# Altium integrated library Microchip PIC18.IntLib: 1897 symbols (part 4 of 110)
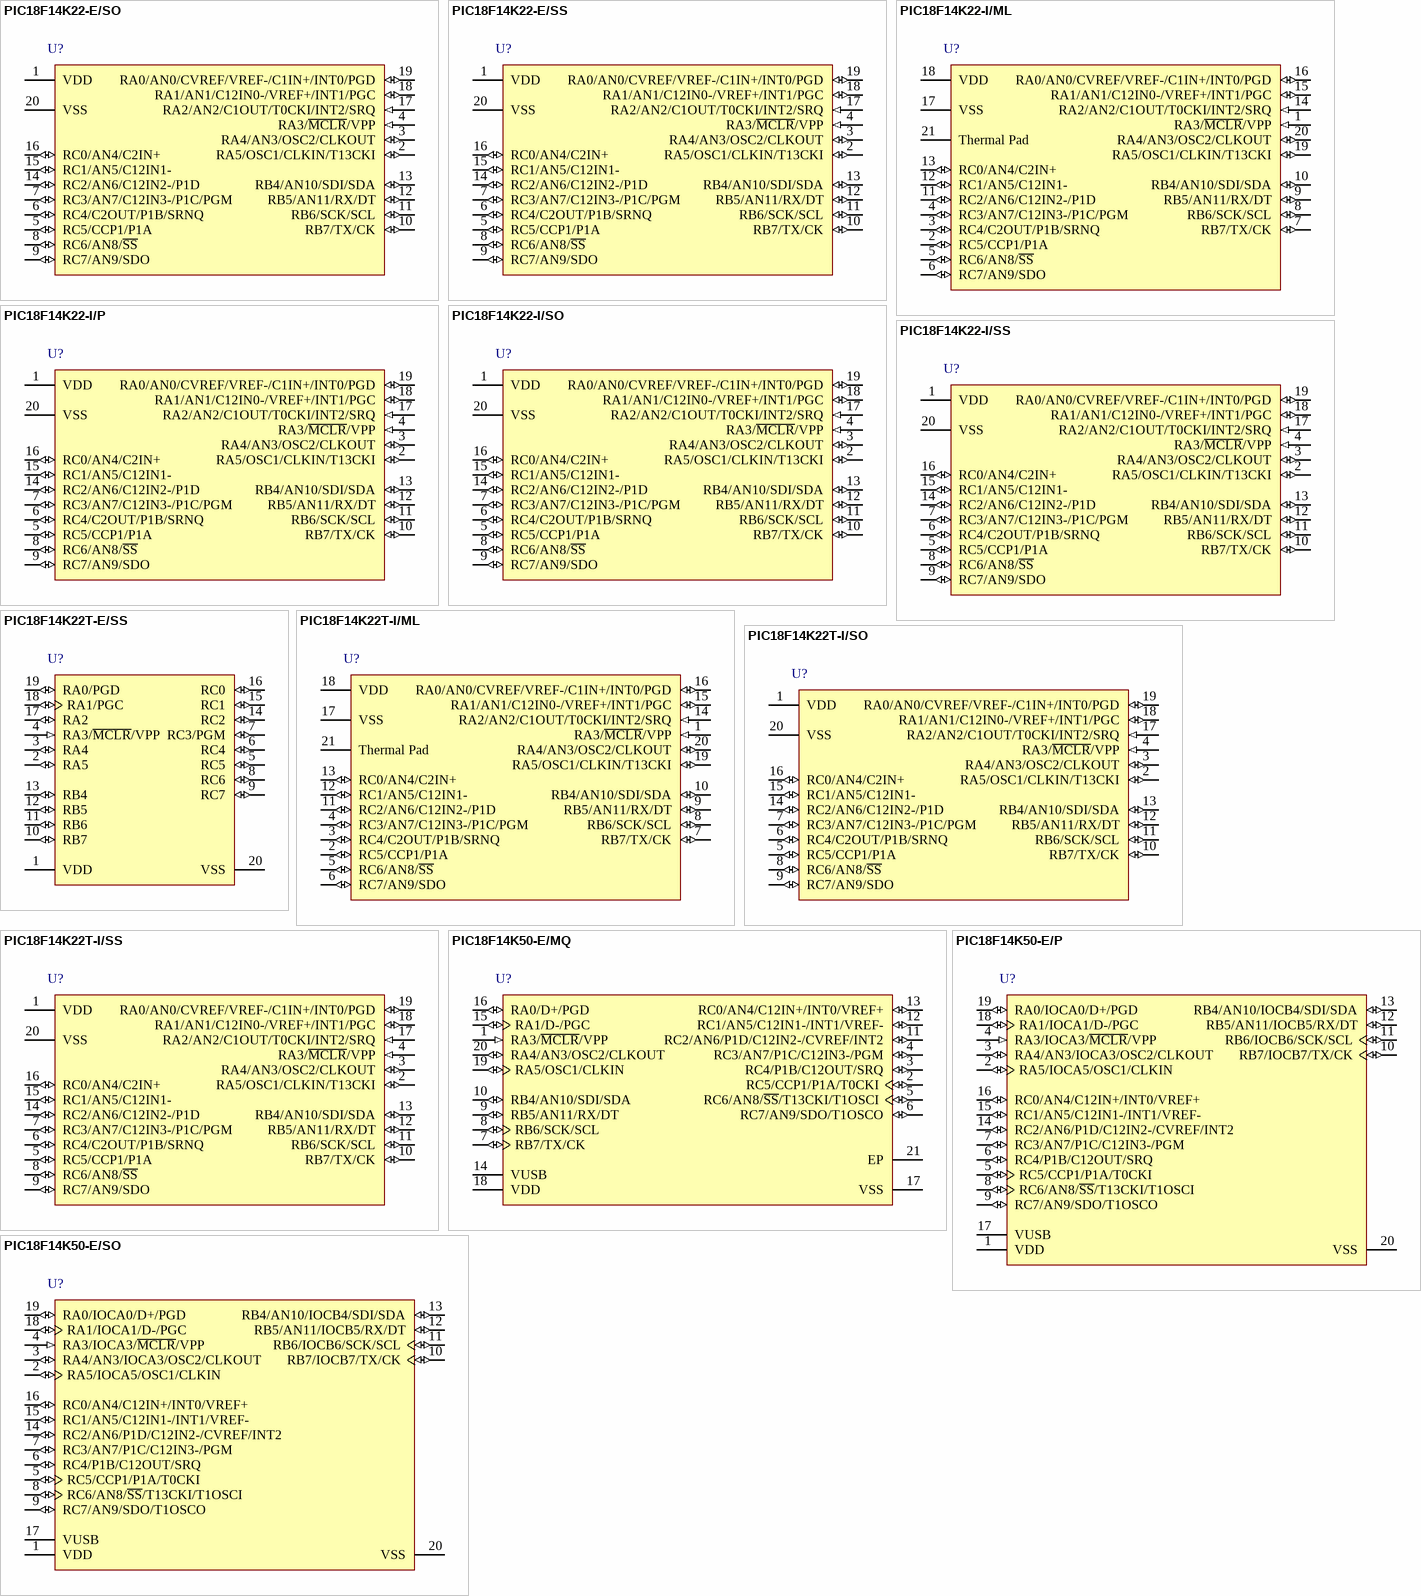
[diagram p324: symbols PIC18F14K22-E/SO to PIC18F14K50-E/SO]

## PIC18F14K22-I/SO
designator U?
Flash Microcontroller with nanoWatt XLP Technology, 20-pin SOIC, Industrial Temperature; Manufacturer: Microchip; PartNumber: PIC18F14K22-I/SO; DatasheetVersion: revC, Oct-2009; PackageVersion: C04-094C, 12/2012; PackageReference: SOIC-SO20; PackageDescription: 20-Lead Plastic Small Outline, 7.5 x 12.8 mm Body, 1.27 mm Pitch; ComponentLink1Description: Manufacturer URL; ComponentLink1URL: http://www.microchip.com/; ComponentLink2Description: Datasheet; ComponentLink2URL: http://ww1.microchip.com/downloads/en/DeviceDoc/41365C.pdf; ComponentLink3Description: Package Specification; ComponentLink3URL: http://www.microchip.com/stellent/groups/techpub_sg/documents/packagingspec/en012702.pdf
footprint MCHP-SOIC-SO20_N (SOIC, 20-Leads, Body 12.8x7.5mm, Pitch 1.27mm, IPC Medium Density)
footprint MCHP-SOIC-SO20_L (SOIC, 20-Leads, Body 12.8x7.5mm, Pitch 1.27mm, IPC High Density)
footprint MCHP-SOIC-SO20_M (SOIC, 20-Leads, Body 12.8x7.5mm, Pitch 1.27mm, IPC Low Density)
pins: 1 VDD (power), 2 RA5/OSC1/CLKIN/T13CKI (io), 3 RA4/AN3/OSC2/CLKOUT (io), 4 RA3/~{MCLR}/VPP (in), 5 RC5/CCP1/P1A (io), 6 RC4/C2OUT/P1B/SRNQ (io), 7 RC3/AN7/C12IN3-/P1C/PGM (io), 8 RC6/AN8/~{SS} (io), 9 RC7/AN9/SDO (io), 10 RB7/TX/CK (io), 11 RB6/SCK/SCL (io), 12 RB5/AN11/RX/DT (io), 13 RB4/AN10/SDI/SDA (io), 14 RC2/AN6/C12IN2-/P1D (io), 15 RC1/AN5/C12IN1- (io), 16 RC0/AN4/C2IN+ (io), 17 RA2/AN2/C1OUT/T0CKI/INT2/SRQ (in), 18 RA1/AN1/C12IN0-/VREF+/INT1/PGC (io), 19 RA0/AN0/CVREF/VREF-/C1IN+/INT0/PGD (io), 20 VSS (power)

## PIC18F14K22-I/SS
designator U?
Flash Microcontroller with nanoWatt XLP Technology, 20-pin SSOP, Industrial Temperature; Manufacturer: Microchip; PartNumber: PIC18F14K22-I/SS; DatasheetVersion: revC, Oct-2009; PackageVersion: C04-072B, 12/2012; PackageReference: SSOP-SS20; PackageDescription: 20-Lead Plastic Shrink Small Outline, 5.3 x 7.2 mm Body, 0.65 mm Pitch; ComponentLink1Description: Manufacturer URL; ComponentLink1URL: http://www.microchip.com/; ComponentLink2Description: Datasheet; ComponentLink2URL: http://ww1.microchip.com/downloads/en/DeviceDoc/41365C.pdf; ComponentLink3Description: Package Specification; ComponentLink3URL: http://www.microchip.com/stellent/groups/techpub_sg/documents/packagingspec/en012702.pdf
footprint MCHP-SSOP-SS20_N (SOP, 20-Leads, Body 7.2x5.3mm, Pitch 0.65mm, IPC Medium Density)
footprint MCHP-SSOP-SS20_L (SOP, 20-Leads, Body 7.2x5.3mm, Pitch 0.65mm, IPC High Density)
footprint MCHP-SSOP-SS20_M (SOP, 20-Leads, Body 7.2x5.3mm, Pitch 0.65mm, IPC Low Density)
pins: 1 VDD (power), 2 RA5/OSC1/CLKIN/T13CKI (io), 3 RA4/AN3/OSC2/CLKOUT (io), 4 RA3/~{MCLR}/VPP (in), 5 RC5/CCP1/P1A (io), 6 RC4/C2OUT/P1B/SRNQ (io), 7 RC3/AN7/C12IN3-/P1C/PGM (io), 8 RC6/AN8/~{SS} (io), 9 RC7/AN9/SDO (io), 10 RB7/TX/CK (io), 11 RB6/SCK/SCL (io), 12 RB5/AN11/RX/DT (io), 13 RB4/AN10/SDI/SDA (io), 14 RC2/AN6/C12IN2-/P1D (io), 15 RC1/AN5/C12IN1- (io), 16 RC0/AN4/C2IN+ (io), 17 RA2/AN2/C1OUT/T0CKI/INT2/SRQ (in), 18 RA1/AN1/C12IN0-/VREF+/INT1/PGC (io), 19 RA0/AN0/CVREF/VREF-/C1IN+/INT0/PGD (io), 20 VSS (power)

## PIC18F14K22T-E/SS
designator U?
Flash Microcontroller with nanoWatt XLP Technology, 64 MHz, 17 I/O, -40 to 125 degC, 20-pin SSOP (SS20), Tape and Reel; Manufacturer: Microchip; PartNumber: PIC18F14K22T-E/SS; # of A/D Channels: 12; Digital Communication: 1 -A/E/USART, 1 -MSSP(SPI/I2C); EEPROM Data Memory (bytes): 256; I/O Pins: 17; Internal Oscillator: 16 MHz, 31 kHz; Max. CPU Speed MHz: 64; Operation Voltage Range: 2.3V - 5.5V; Packing: T/R; Program Memory KBytes: 16; Program Memory KWords: 8; RAM: 512; Timers: 1 - 8-bit, 3 - 16-bit; DatasheetVersion: Rev. E; PackageVersion: C04-072B, 12/2012; PackageReference: SSOP-SS20; PackageDescription: 20-Lead Plastic Shrink Small Outline, 5.3 x 7.2 mm Body, 0.65 mm Pitch; Memory Type: Flash; RoHS: TRUE; Mounting Technology: Surface Mount; ComponentLink1Description: Datasheet; ComponentLink1URL: http://ww1.microchip.com/downloads/en/DeviceDoc/41365E.pdf; ComponentLink2Description: Package Specification; ComponentLink2URL: http://www.microchip.com/stellent/groups/techpub_sg/documents/packagingspec/en012702.pdf; ComponentLink3Description: URL Link1; ComponentLink3URL: Product URL:http://www.microchip.com/datasheet/PIC18F14K22
footprint MCHP-SSOP-SS20_N (SOP, 20-Leads, Body 7.2x5.3mm, Pitch 0.65mm, IPC Medium Density)
footprint MCHP-SSOP-SS20_L (SOP, 20-Leads, Body 7.2x5.3mm, Pitch 0.65mm, IPC High Density)
footprint MCHP-SSOP-SS20_M (SOP, 20-Leads, Body 7.2x5.3mm, Pitch 0.65mm, IPC Low Density)
pins: 1 VDD (power) "Positive supply for logic and I/O pins", 2 RA5 (io), 3 RA4 (io), 4 RA3/~{MCLR}/VPP (in), 5 RC5 (io), 6 RC4 (io), 7 RC3/PGM (io), 8 RC6 (io), 9 RC7 (io), 10 RB7 (io), 11 RB6 (io), 12 RB5 (io), 13 RB4 (io), 14 RC2 (io), 15 RC1 (io), 16 RC0 (io), 17 RA2 (io), 18 RA1/PGC (io), 19 RA0/PGD (io), 20 VSS (power) "Ground reference for logic and I/O pins"

## PIC18F14K22T-I/ML
designator U?
Flash Microcontroller with nanoWatt XLP Technology, 20-pin QFN, Industrial Temperature, Tape and Reel; Manufacturer: Microchip; PartNumber: PIC18F14K22T-I/ML; DatasheetVersion: revC, Oct-2009; PackageVersion: C04-126B, 12/2012; PackageReference: QFN-ML20; PackageDescription: 20-Lead Plastic Quad Flat, No Lead Package, 4 x 4 mm Body, 0.5 mm Pitch; ComponentLink1Description: Manufacturer URL; ComponentLink1URL: http://www.microchip.com/; ComponentLink2Description: Datasheet; ComponentLink2URL: http://ww1.microchip.com/downloads/en/DeviceDoc/41365C.pdf; ComponentLink3Description: Package Specification; ComponentLink3URL: http://www.microchip.com/stellent/groups/techpub_sg/documents/packagingspec/en012702.pdf
footprint MCHP-QFN-ML20_N (QFN, 20-Leads, Body 4x4mm, Pitch 0.5mm, Thermal Pad 2.7x2.7mm, IPC Medium Density)
footprint MCHP-QFN-ML20_L (QFN, 20-Leads, Body 4x4mm, Pitch 0.5mm, Thermal Pad 2.7x2.7mm, IPC High Density)
footprint MCHP-QFN-ML20_M (QFN, 20-Leads, Body 4x4mm, Pitch 0.5mm, Thermal Pad 2.7x2.7mm, IPC Low Density)
pins: 1 RA3/~{MCLR}/VPP (in), 2 RC5/CCP1/P1A (io), 3 RC4/C2OUT/P1B/SRNQ (io), 4 RC3/AN7/C12IN3-/P1C/PGM (io), 5 RC6/AN8/~{SS} (io), 6 RC7/AN9/SDO (io), 7 RB7/TX/CK (io), 8 RB6/SCK/SCL (io), 9 RB5/AN11/RX/DT (io), 10 RB4/AN10/SDI/SDA (io), 11 RC2/AN6/C12IN2-/P1D (io), 12 RC1/AN5/C12IN1- (io), 13 RC0/AN4/C2IN+ (io), 14 RA2/AN2/C1OUT/T0CKI/INT2/SRQ (in), 15 RA1/AN1/C12IN0-/VREF+/INT1/PGC (io), 16 RA0/AN0/CVREF/VREF-/C1IN+/INT0/PGD (io), 17 VSS (power), 18 VDD (power), 19 RA5/OSC1/CLKIN/T13CKI (io), 20 RA4/AN3/OSC2/CLKOUT (io), 21 Thermal Pad (power)

## PIC18F14K22T-I/SO
designator U?
Flash Microcontroller with nanoWatt XLP Technology, 20-pin SOIC, Industrial Temperature, Tape and Reel; Manufacturer: Microchip; PartNumber: PIC18F14K22T-I/SO; DatasheetVersion: revC, Oct-2009; PackageVersion: C04-094C, 12/2012; PackageReference: SOIC-SO20; PackageDescription: 20-Lead Plastic Small Outline, 7.5 x 12.8 mm Body, 1.27 mm Pitch; ComponentLink1Description: Manufacturer URL; ComponentLink1URL: http://www.microchip.com/; ComponentLink2Description: Datasheet; ComponentLink2URL: http://ww1.microchip.com/downloads/en/DeviceDoc/41365C.pdf; ComponentLink3Description: Package Specification; ComponentLink3URL: http://www.microchip.com/stellent/groups/techpub_sg/documents/packagingspec/en012702.pdf
footprint MCHP-SOIC-SO20_N (SOIC, 20-Leads, Body 12.8x7.5mm, Pitch 1.27mm, IPC Medium Density)
footprint MCHP-SOIC-SO20_L (SOIC, 20-Leads, Body 12.8x7.5mm, Pitch 1.27mm, IPC High Density)
footprint MCHP-SOIC-SO20_M (SOIC, 20-Leads, Body 12.8x7.5mm, Pitch 1.27mm, IPC Low Density)
pins: 1 VDD (power), 2 RA5/OSC1/CLKIN/T13CKI (io), 3 RA4/AN3/OSC2/CLKOUT (io), 4 RA3/~{MCLR}/VPP (in), 5 RC5/CCP1/P1A (io), 6 RC4/C2OUT/P1B/SRNQ (io), 7 RC3/AN7/C12IN3-/P1C/PGM (io), 8 RC6/AN8/~{SS} (io), 9 RC7/AN9/SDO (io), 10 RB7/TX/CK (io), 11 RB6/SCK/SCL (io), 12 RB5/AN11/RX/DT (io), 13 RB4/AN10/SDI/SDA (io), 14 RC2/AN6/C12IN2-/P1D (io), 15 RC1/AN5/C12IN1- (io), 16 RC0/AN4/C2IN+ (io), 17 RA2/AN2/C1OUT/T0CKI/INT2/SRQ (in), 18 RA1/AN1/C12IN0-/VREF+/INT1/PGC (io), 19 RA0/AN0/CVREF/VREF-/C1IN+/INT0/PGD (io), 20 VSS (power)

## PIC18F14K22T-I/SS
designator U?
Flash Microcontroller with nanoWatt XLP Technology, 20-pin SSOP, Industrial Temperature, Tape and Reel; Manufacturer: Microchip; PartNumber: PIC18F14K22T-I/SS; DatasheetVersion: revC, Oct-2009; PackageVersion: C04-072B, 12/2012; PackageReference: SSOP-SS20; PackageDescription: 20-Lead Plastic Shrink Small Outline, 5.3 x 7.2 mm Body, 0.65 mm Pitch; ComponentLink1Description: Manufacturer URL; ComponentLink1URL: http://www.microchip.com/; ComponentLink2Description: Datasheet; ComponentLink2URL: http://ww1.microchip.com/downloads/en/DeviceDoc/41365C.pdf; ComponentLink3Description: Package Specification; ComponentLink3URL: http://www.microchip.com/stellent/groups/techpub_sg/documents/packagingspec/en012702.pdf
footprint MCHP-SSOP-SS20_N (SOP, 20-Leads, Body 7.2x5.3mm, Pitch 0.65mm, IPC Medium Density)
footprint MCHP-SSOP-SS20_L (SOP, 20-Leads, Body 7.2x5.3mm, Pitch 0.65mm, IPC High Density)
footprint MCHP-SSOP-SS20_M (SOP, 20-Leads, Body 7.2x5.3mm, Pitch 0.65mm, IPC Low Density)
pins: 1 VDD (power), 2 RA5/OSC1/CLKIN/T13CKI (io), 3 RA4/AN3/OSC2/CLKOUT (io), 4 RA3/~{MCLR}/VPP (in), 5 RC5/CCP1/P1A (io), 6 RC4/C2OUT/P1B/SRNQ (io), 7 RC3/AN7/C12IN3-/P1C/PGM (io), 8 RC6/AN8/~{SS} (io), 9 RC7/AN9/SDO (io), 10 RB7/TX/CK (io), 11 RB6/SCK/SCL (io), 12 RB5/AN11/RX/DT (io), 13 RB4/AN10/SDI/SDA (io), 14 RC2/AN6/C12IN2-/P1D (io), 15 RC1/AN5/C12IN1- (io), 16 RC0/AN4/C2IN+ (io), 17 RA2/AN2/C1OUT/T0CKI/INT2/SRQ (in), 18 RA1/AN1/C12IN0-/VREF+/INT1/PGC (io), 19 RA0/AN0/CVREF/VREF-/C1IN+/INT0/PGD (io), 20 VSS (power)

## PIC18F14K50-E/MQ
designator U?
USB Flash Microcontroller with nanoWatt XLP Technology, 48 MHz, 14 I/O, -40 to 125 degC, 20-pin QFN (MQ20), Tube; Manufacturer: Microchip; PartNumber: PIC18F14K50-E/MQ; # of A/D Channels: 9; Digital Communication: 1 -A/E/USART, 1 -MSSP(SPI/I2C); EEPROM Data Memory (bytes): 256; I/O Pins: 14; Internal Oscillator: 16 MHz, 31 kHz; Max. CPU Speed MHz: 48; Operation Voltage Range: 1.8V - 5.5V; Program Memory KBytes: 16; Program Memory KWords: 8; RAM: 768; Timers: 1 - 8-bit, 3 - 16-bit; DatasheetVersion: Rev. E; PackageVersion: C04-139B, 12/2012; PackageReference: QFN-MQ20; PackageDescription: 20-Lead Plastic Quad Flat, No Lead Package, 5 x 5 mm Body, 0.65 mm Pitch; Memory Type: Flash; Packing: TUBE; RoHS: TRUE; Mounting Technology: Surface Mount; ComponentLink1Description: Datasheet; ComponentLink1URL: http://ww1.microchip.com/downloads/en/DeviceDoc/41350E.pdf; ComponentLink2Description: Package Specification; ComponentLink2URL: http://www.microchip.com/stellent/groups/techpub_sg/documents/packagingspec/en012702.pdf; ComponentLink3Description: URL Link1; ComponentLink3URL: Product URL:http://www.microchip.com/datasheet/PIC18F14K50
footprint MCHP-QFN-MQ20_N (QFN, 20-Leads, Body 5x5mm, Pitch 0.65mm, Thermal Pad 3.25x3.25mm, IPC Medium Density)
footprint MCHP-QFN-MQ20_L (QFN, 20-Leads, Body 5x5mm, Pitch 0.65mm, Thermal Pad 3.25x3.25mm, IPC High Density)
footprint MCHP-QFN-MQ20_M (QFN, 20-Leads, Body 5x5mm, Pitch 0.65mm, Thermal Pad 3.25x3.25mm, IPC Low Density)
pins: 1 RA3/~{MCLR}/VPP (in), 2 RC5/CCP1/P1A/T0CKI (io), 3 RC4/P1B/C12OUT/SRQ (io), 4 RC3/AN7/P1C/C12IN3-/PGM (io), 5 RC6/AN8/~{SS}/T13CKI/T1OSCI (io), 6 RC7/AN9/SDO/T1OSCO (io), 7 RB7/TX/CK (io), 8 RB6/SCK/SCL (io), 9 RB5/AN11/RX/DT (io), 10 RB4/AN10/SDI/SDA (io), 11 RC2/AN6/P1D/C12IN2-/CVREF/INT2 (io), 12 RC1/AN5/C12IN1-/INT1/VREF- (io), 13 RC0/AN4/C12IN+/INT0/VREF+ (io), 14 VUSB (power) "Positive supply for USB transceiver", 15 RA1/D-/PGC (io), 16 RA0/D+/PGD (io), 17 VSS (power) "Ground reference for logic and I/O pins", 18 VDD (power) "Positive supply for logic and I/O pins", 19 RA5/OSC1/CLKIN (io), 20 RA4/AN3/OSC2/CLKOUT (io), 21 EP

## PIC18F14K50-E/P
designator U?
USB Flash Microcontroller with nanoWatt XLP Technology, 48 MHz, 14 I/O, -40 to 125 degC, 20-pin PDIP (P20), Tube; Manufacturer: Microchip; PartNumber: PIC18F14K50-E/P; # of A/D Channels: 9; Digital Communication: 1 -A/E/USART, 1 -MSSP(SPI/I2C); EEPROM Data Memory (bytes): 256; I/O Pins: 14; Internal Oscillator: 16 MHz, 31 kHz; Max. CPU Speed MHz: 48; Operation Voltage Range: 1.8V - 5.5V; Program Memory KBytes: 16; Program Memory KWords: 8; RAM: 768; Timers: 1 - 8-bit, 3 - 16-bit; DatasheetVersion: Rev. E; PackageVersion: C04-019B, 12/2012; PackageReference: PDIP-P20; PackageDescription: 20-Lead Plastic Dual In-Line, Row Spacing 7.62 mm, 25.91 x 6.6 mm Body, 2.54 mm Pitch; Memory Type: Flash; Packing: TUBE; RoHS: TRUE; Mounting Technology: Through Hole; ComponentLink1Description: Datasheet; ComponentLink1URL: http://ww1.microchip.com/downloads/en/DeviceDoc/41350E.pdf; ComponentLink2Description: Package Specification; ComponentLink2URL: http://www.microchip.com/stellent/groups/techpub_sg/documents/packagingspec/en012702.pdf; ComponentLink3Description: URL Link1; ComponentLink3URL: Product URL:http://www.microchip.com/datasheet/PIC18F14K50
footprint MCHP-PDIP-P20 (DIP, 20-Leads, Body 25.91x6.6mm, Pitch 2.54mm)
pins: 1 VDD (power) "Positive supply for logic and I/O pins", 2 RA5/IOCA5/OSC1/CLKIN (io), 3 RA4/AN3/IOCA3/OSC2/CLKOUT (io), 4 RA3/IOCA3/~{MCLR}/VPP (in), 5 RC5/CCP1/P1A/T0CKI (io), 6 RC4/P1B/C12OUT/SRQ (io), 7 RC3/AN7/P1C/C12IN3-/PGM (io), 8 RC6/AN8/~{SS}/T13CKI/T1OSCI (io), 9 RC7/AN9/SDO/T1OSCO (io), 10 RB7/IOCB7/TX/CK (io), 11 RB6/IOCB6/SCK/SCL (io), 12 RB5/AN11/IOCB5/RX/DT (io), 13 RB4/AN10/IOCB4/SDI/SDA (io), 14 RC2/AN6/P1D/C12IN2-/CVREF/INT2 (io), 15 RC1/AN5/C12IN1-/INT1/VREF- (io), 16 RC0/AN4/C12IN+/INT0/VREF+ (io), 17 VUSB (power) "Positive supply for USB transceiver", 18 RA1/IOCA1/D-/PGC (io), 19 RA0/IOCA0/D+/PGD (io), 20 VSS (power) "Ground reference for logic and I/O pins"

## PIC18F14K50-E/SO
designator U?
USB Flash Microcontroller with nanoWatt XLP Technology, 48 MHz, 14 I/O, -40 to 125 degC, 20-pin SOIC (SO20), Tube; Manufacturer: Microchip; PartNumber: PIC18F14K50-E/SO; # of A/D Channels: 9; Digital Communication: 1 -A/E/USART, 1 -MSSP(SPI/I2C); EEPROM Data Memory (bytes): 256; I/O Pins: 14; Internal Oscillator: 16 MHz, 31 kHz; Max. CPU Speed MHz: 48; Operation Voltage Range: 1.8V - 5.5V; Program Memory KBytes: 16; Program Memory KWords: 8; RAM: 768; Timers: 1 - 8-bit, 3 - 16-bit; DatasheetVersion: Rev. E; PackageVersion: C04-094C, 12/2012; PackageReference: SOIC-SO20; PackageDescription: 20-Lead Plastic Small Outline, 7.5 x 12.8 mm Body, 1.27 mm Pitch; Memory Type: Flash; Packing: TUBE; RoHS: TRUE; Mounting Technology: Surface Mount; ComponentLink1Description: Datasheet; ComponentLink1URL: http://ww1.microchip.com/downloads/en/DeviceDoc/41350E.pdf; ComponentLink2Description: Package Specification; ComponentLink2URL: http://www.microchip.com/stellent/groups/techpub_sg/documents/packagingspec/en012702.pdf; ComponentLink3Description: URL Link1; ComponentLink3URL: Product URL:http://www.microchip.com/datasheet/PIC18F14K50
footprint MCHP-SOIC-SO20_N (SOIC, 20-Leads, Body 12.8x7.5mm, Pitch 1.27mm, IPC Medium Density)
footprint MCHP-SOIC-SO20_L (SOIC, 20-Leads, Body 12.8x7.5mm, Pitch 1.27mm, IPC High Density)
footprint MCHP-SOIC-SO20_M (SOIC, 20-Leads, Body 12.8x7.5mm, Pitch 1.27mm, IPC Low Density)
pins: 1 VDD (power) "Positive supply for logic and I/O pins", 2 RA5/IOCA5/OSC1/CLKIN (io), 3 RA4/AN3/IOCA3/OSC2/CLKOUT (io), 4 RA3/IOCA3/~{MCLR}/VPP (in), 5 RC5/CCP1/P1A/T0CKI (io), 6 RC4/P1B/C12OUT/SRQ (io), 7 RC3/AN7/P1C/C12IN3-/PGM (io), 8 RC6/AN8/~{SS}/T13CKI/T1OSCI (io), 9 RC7/AN9/SDO/T1OSCO (io), 10 RB7/IOCB7/TX/CK (io), 11 RB6/IOCB6/SCK/SCL (io), 12 RB5/AN11/IOCB5/RX/DT (io), 13 RB4/AN10/IOCB4/SDI/SDA (io), 14 RC2/AN6/P1D/C12IN2-/CVREF/INT2 (io), 15 RC1/AN5/C12IN1-/INT1/VREF- (io), 16 RC0/AN4/C12IN+/INT0/VREF+ (io), 17 VUSB (power) "Positive supply for USB transceiver", 18 RA1/IOCA1/D-/PGC (io), 19 RA0/IOCA0/D+/PGD (io), 20 VSS (power) "Ground reference for logic and I/O pins"

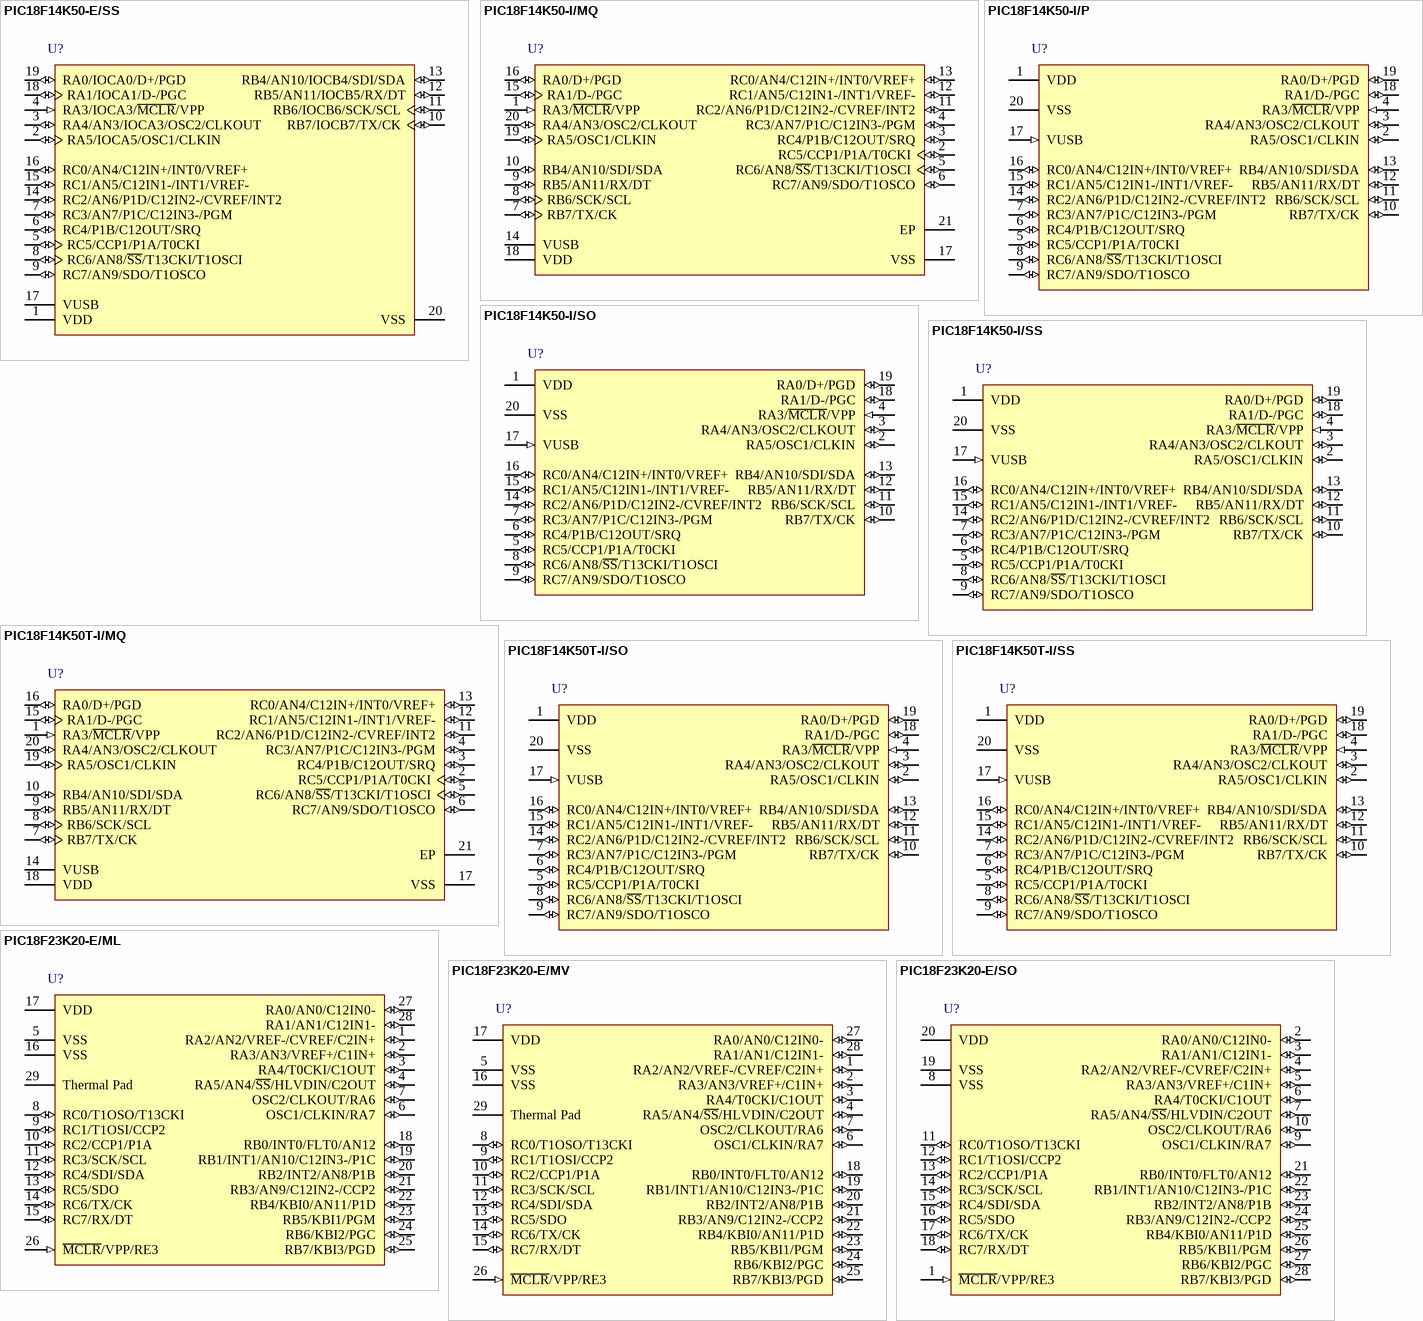
[diagram p5: symbols PIC18F14K50-E/SS to PIC18F23K20-E/SO]

## PIC18F14K50-E/SS
designator U?
USB Flash Microcontroller with nanoWatt XLP Technology, 48 MHz, 14 I/O, -40 to 125 degC, 20-pin SSOP (SS20), Tube; Manufacturer: Microchip; PartNumber: PIC18F14K50-E/SS; # of A/D Channels: 9; Digital Communication: 1 -A/E/USART, 1 -MSSP(SPI/I2C); EEPROM Data Memory (bytes): 256; I/O Pins: 14; Internal Oscillator: 16 MHz, 31 kHz; Max. CPU Speed MHz: 48; Operation Voltage Range: 1.8V - 5.5V; Program Memory KBytes: 16; Program Memory KWords: 8; RAM: 768; Timers: 1 - 8-bit, 3 - 16-bit; DatasheetVersion: Rev. E; PackageVersion: C04-072B, 12/2012; PackageReference: SSOP-SS20; PackageDescription: 20-Lead Plastic Shrink Small Outline, 5.3 x 7.2 mm Body, 0.65 mm Pitch; Memory Type: Flash; Packing: TUBE; RoHS: TRUE; Mounting Technology: Surface Mount; ComponentLink1Description: Datasheet; ComponentLink1URL: http://ww1.microchip.com/downloads/en/DeviceDoc/41350E.pdf; ComponentLink2Description: Package Specification; ComponentLink2URL: http://www.microchip.com/stellent/groups/techpub_sg/documents/packagingspec/en012702.pdf; ComponentLink3Description: URL Link1; ComponentLink3URL: Product URL:http://www.microchip.com/datasheet/PIC18F14K50
footprint MCHP-SSOP-SS20_N (SOP, 20-Leads, Body 7.2x5.3mm, Pitch 0.65mm, IPC Medium Density)
footprint MCHP-SSOP-SS20_L (SOP, 20-Leads, Body 7.2x5.3mm, Pitch 0.65mm, IPC High Density)
footprint MCHP-SSOP-SS20_M (SOP, 20-Leads, Body 7.2x5.3mm, Pitch 0.65mm, IPC Low Density)
pins: 1 VDD (power) "Positive supply for logic and I/O pins", 2 RA5/IOCA5/OSC1/CLKIN (io), 3 RA4/AN3/IOCA3/OSC2/CLKOUT (io), 4 RA3/IOCA3/~{MCLR}/VPP (in), 5 RC5/CCP1/P1A/T0CKI (io), 6 RC4/P1B/C12OUT/SRQ (io), 7 RC3/AN7/P1C/C12IN3-/PGM (io), 8 RC6/AN8/~{SS}/T13CKI/T1OSCI (io), 9 RC7/AN9/SDO/T1OSCO (io), 10 RB7/IOCB7/TX/CK (io), 11 RB6/IOCB6/SCK/SCL (io), 12 RB5/AN11/IOCB5/RX/DT (io), 13 RB4/AN10/IOCB4/SDI/SDA (io), 14 RC2/AN6/P1D/C12IN2-/CVREF/INT2 (io), 15 RC1/AN5/C12IN1-/INT1/VREF- (io), 16 RC0/AN4/C12IN+/INT0/VREF+ (io), 17 VUSB (power) "Positive supply for USB transceiver", 18 RA1/IOCA1/D-/PGC (io), 19 RA0/IOCA0/D+/PGD (io), 20 VSS (power) "Ground reference for logic and I/O pins"

## PIC18F14K50-I/MQ
designator U?
USB Flash Microcontroller with nanoWatt XLP Technology, 48 MHz, 14 I/O, -40 to 85 degC, 20-pin QFN (MQ20), Tube; Manufacturer: Microchip; PartNumber: PIC18F14K50-I/MQ; # of A/D Channels: 9; Digital Communication: 1 -A/E/USART, 1 -MSSP(SPI/I2C); EEPROM Data Memory (bytes): 256; I/O Pins: 14; Internal Oscillator: 16 MHz, 31 kHz; Max. CPU Speed MHz: 48; Operation Voltage Range: 1.8V - 5.5V; Program Memory KBytes: 16; Program Memory KWords: 8; RAM: 768; Timers: 1 - 8-bit, 3 - 16-bit; DatasheetVersion: Rev. E; PackageVersion: C04-139B, 12/2012; PackageReference: QFN-MQ20; PackageDescription: 20-Lead Plastic Quad Flat, No Lead Package, 5 x 5 mm Body, 0.65 mm Pitch; Supplier 1: Digi-Key; Supplier Part Number 1: PIC18F14K50-I/MQ-ND; Supplier 2: Farnell; Supplier Part Number 2: 1847078; Supplier 3: Newark; Supplier Part Number 3: 24R7104; Supplier 4: Mouser; Supplier Part Number 4: 579-PIC18F14K50-I/MQ; Memory Type: Flash; Packing: TUBE; RoHS: TRUE; Mounting Technology: Surface Mount; ComponentLink1Description: Datasheet; ComponentLink1URL: http://ww1.microchip.com/downloads/en/DeviceDoc/41350E.pdf; ComponentLink2Description: Package Specification; ComponentLink2URL: http://www.microchip.com/stellent/groups/techpub_sg/documents/packagingspec/en012702.pdf; ComponentLink3Description: URL Link1; ComponentLink3URL: Product URL:http://www.microchip.com/datasheet/PIC18F14K50
footprint MCHP-QFN-MQ20_N (QFN, 20-Leads, Body 5x5mm, Pitch 0.65mm, Thermal Pad 3.25x3.25mm, IPC Medium Density)
footprint MCHP-QFN-MQ20_L (QFN, 20-Leads, Body 5x5mm, Pitch 0.65mm, Thermal Pad 3.25x3.25mm, IPC High Density)
footprint MCHP-QFN-MQ20_M (QFN, 20-Leads, Body 5x5mm, Pitch 0.65mm, Thermal Pad 3.25x3.25mm, IPC Low Density)
pins: 1 RA3/~{MCLR}/VPP (in), 2 RC5/CCP1/P1A/T0CKI (io), 3 RC4/P1B/C12OUT/SRQ (io), 4 RC3/AN7/P1C/C12IN3-/PGM (io), 5 RC6/AN8/~{SS}/T13CKI/T1OSCI (io), 6 RC7/AN9/SDO/T1OSCO (io), 7 RB7/TX/CK (io), 8 RB6/SCK/SCL (io), 9 RB5/AN11/RX/DT (io), 10 RB4/AN10/SDI/SDA (io), 11 RC2/AN6/P1D/C12IN2-/CVREF/INT2 (io), 12 RC1/AN5/C12IN1-/INT1/VREF- (io), 13 RC0/AN4/C12IN+/INT0/VREF+ (io), 14 VUSB (power) "Positive supply for USB transceiver", 15 RA1/D-/PGC (io), 16 RA0/D+/PGD (io), 17 VSS (power) "Ground reference for logic and I/O pins", 18 VDD (power) "Positive supply for logic and I/O pins", 19 RA5/OSC1/CLKIN (io), 20 RA4/AN3/OSC2/CLKOUT (io), 21 EP

## PIC18F14K50-I/P
designator U?
USB Flash Microcontroller with nanoWatt XLP Technology, 20-pin PDIP, Industrial Temperature; Manufacturer: Microchip; PartNumber: PIC18F14K50-I/P; DatasheetVersion: revC, Mar-2009; PackageVersion: revBB, Aug-2009; PackageReference: PDIP300-P20; PackageDescription: 20-Lead Plastic Dual In-Line (P) - 300 mil Body [PDIP]; ComponentLink1Description: Manufacturer URL; ComponentLink1URL: http://www.microchip.com/; ComponentLink2Description: Datasheet; ComponentLink2URL: http://ww1.microchip.com/downloads/en/DeviceDoc/41350C.pdf; ComponentLink3Description: Package Specification; ComponentLink3URL: http://www.microchip.com/stellent/groups/techpub_sg/documents/packagingspec/en012702.pdf
footprint PDIP300-P20 (DIP, 20-Leads, Row Spacing 7.62mm, Pitch 2.54mm, Body 25.9x6.6mm)
pins: 1 VDD (power), 2 RA5/OSC1/CLKIN (io), 3 RA4/AN3/OSC2/CLKOUT (io), 4 RA3/~{MCLR}/VPP (in), 5 RC5/CCP1/P1A/T0CKI (io), 6 RC4/P1B/C12OUT/SRQ (io), 7 RC3/AN7/P1C/C12IN3-/PGM (io), 8 RC6/AN8/~{SS}/T13CKI/T1OSCI (io), 9 RC7/AN9/SDO/T1OSCO (io), 10 RB7/TX/CK (io), 11 RB6/SCK/SCL (io), 12 RB5/AN11/RX/DT (io), 13 RB4/AN10/SDI/SDA (io), 14 RC2/AN6/P1D/C12IN2-/CVREF/INT2 (io), 15 RC1/AN5/C12IN1-/INT1/VREF- (io), 16 RC0/AN4/C12IN+/INT0/VREF+ (io), 17 VUSB (in), 18 RA1/D-/PGC (io), 19 RA0/D+/PGD (io), 20 VSS (power)

## PIC18F14K50-I/SO
designator U?
USB Flash Microcontroller with nanoWatt XLP Technology, 20-pin SOIC, Industrial Temperature; Manufacturer: Microchip; PartNumber: PIC18F14K50-I/SO; DatasheetVersion: revC, Mar-2009; PackageVersion: C04-094C, 12/2012; PackageReference: SOIC-SO20; PackageDescription: 20-Lead Plastic Small Outline, 7.5 x 12.8 mm Body, 1.27 mm Pitch; ComponentLink1Description: Manufacturer URL; ComponentLink1URL: http://www.microchip.com/; ComponentLink2Description: Datasheet; ComponentLink2URL: http://ww1.microchip.com/downloads/en/DeviceDoc/41350C.pdf; ComponentLink3Description: Package Specification; ComponentLink3URL: http://www.microchip.com/stellent/groups/techpub_sg/documents/packagingspec/en012702.pdf
footprint MCHP-SOIC-SO20_N (SOIC, 20-Leads, Body 12.8x7.5mm, Pitch 1.27mm, IPC Medium Density)
footprint MCHP-SOIC-SO20_L (SOIC, 20-Leads, Body 12.8x7.5mm, Pitch 1.27mm, IPC High Density)
footprint MCHP-SOIC-SO20_M (SOIC, 20-Leads, Body 12.8x7.5mm, Pitch 1.27mm, IPC Low Density)
pins: 1 VDD (power), 2 RA5/OSC1/CLKIN (io), 3 RA4/AN3/OSC2/CLKOUT (io), 4 RA3/~{MCLR}/VPP (in), 5 RC5/CCP1/P1A/T0CKI (io), 6 RC4/P1B/C12OUT/SRQ (io), 7 RC3/AN7/P1C/C12IN3-/PGM (io), 8 RC6/AN8/~{SS}/T13CKI/T1OSCI (io), 9 RC7/AN9/SDO/T1OSCO (io), 10 RB7/TX/CK (io), 11 RB6/SCK/SCL (io), 12 RB5/AN11/RX/DT (io), 13 RB4/AN10/SDI/SDA (io), 14 RC2/AN6/P1D/C12IN2-/CVREF/INT2 (io), 15 RC1/AN5/C12IN1-/INT1/VREF- (io), 16 RC0/AN4/C12IN+/INT0/VREF+ (io), 17 VUSB (in), 18 RA1/D-/PGC (io), 19 RA0/D+/PGD (io), 20 VSS (power)

## PIC18F14K50-I/SS
designator U?
USB Flash Microcontroller with nanoWatt XLP Technology, 20-pin SSOP, Industrial Temperature; Manufacturer: Microchip; PartNumber: PIC18F14K50-I/SS; DatasheetVersion: revC, Mar-2009; PackageVersion: C04-072B, 12/2012; PackageReference: SSOP-SS20; PackageDescription: 20-Lead Plastic Shrink Small Outline, 5.3 x 7.2 mm Body, 0.65 mm Pitch; ComponentLink1Description: Manufacturer URL; ComponentLink1URL: http://www.microchip.com/; ComponentLink2Description: Datasheet; ComponentLink2URL: http://ww1.microchip.com/downloads/en/DeviceDoc/41350C.pdf; ComponentLink3Description: Package Specification; ComponentLink3URL: http://www.microchip.com/stellent/groups/techpub_sg/documents/packagingspec/en012702.pdf
footprint MCHP-SSOP-SS20_N (SOP, 20-Leads, Body 7.2x5.3mm, Pitch 0.65mm, IPC Medium Density)
footprint MCHP-SSOP-SS20_L (SOP, 20-Leads, Body 7.2x5.3mm, Pitch 0.65mm, IPC High Density)
footprint MCHP-SSOP-SS20_M (SOP, 20-Leads, Body 7.2x5.3mm, Pitch 0.65mm, IPC Low Density)
pins: 1 VDD (power), 2 RA5/OSC1/CLKIN (io), 3 RA4/AN3/OSC2/CLKOUT (io), 4 RA3/~{MCLR}/VPP (in), 5 RC5/CCP1/P1A/T0CKI (io), 6 RC4/P1B/C12OUT/SRQ (io), 7 RC3/AN7/P1C/C12IN3-/PGM (io), 8 RC6/AN8/~{SS}/T13CKI/T1OSCI (io), 9 RC7/AN9/SDO/T1OSCO (io), 10 RB7/TX/CK (io), 11 RB6/SCK/SCL (io), 12 RB5/AN11/RX/DT (io), 13 RB4/AN10/SDI/SDA (io), 14 RC2/AN6/P1D/C12IN2-/CVREF/INT2 (io), 15 RC1/AN5/C12IN1-/INT1/VREF- (io), 16 RC0/AN4/C12IN+/INT0/VREF+ (io), 17 VUSB (in), 18 RA1/D-/PGC (io), 19 RA0/D+/PGD (io), 20 VSS (power)